# EAGLE library part JOYSTICK (library angrypig7-Switches)
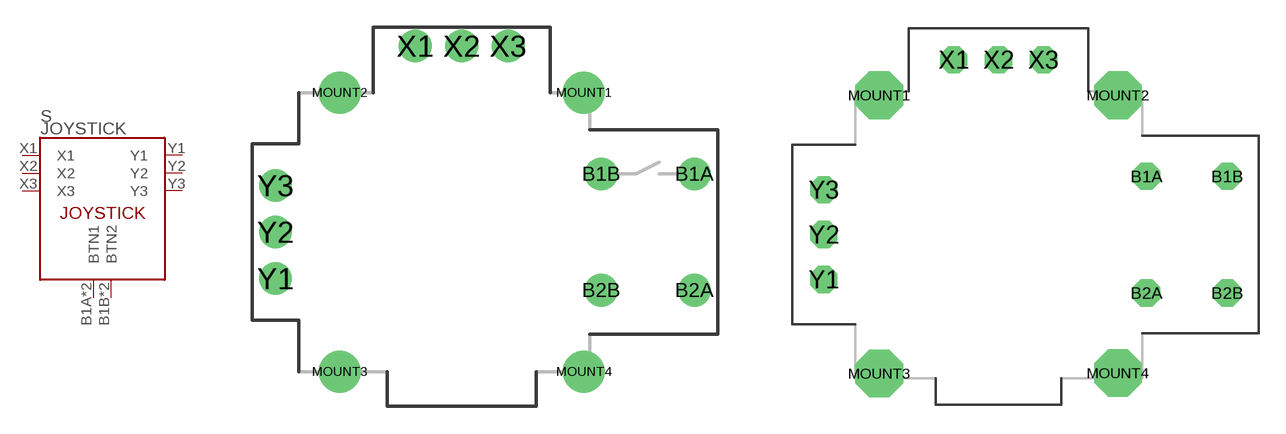
[diagram p1: symbol with the pads of JOYSTICK-PS2; footprints JOYSTICK-PS2, JOYSTICK-XBOX360(JT9S-1P)]

Designator prefix S

## JOYSTICK_PS2  [JOYSTICK-PS2]
B1A  BTN1
B1B  BTN2
B2A  BTN1
B2B  BTN2
X1  X1
X2  X2
X3  X3
Y1  Y1
Y2  Y2
Y3  Y3

## JOYSTICK_XBOX360  [JOYSTICK-XBOX360(JT9S-1P)]
Pads as for JOYSTICK-PS2

## JOYSTICK_ALPS-RKJXV1224005  [JOYSTICK-ALPS-RKJXV1224005]
Pads as for JOYSTICK-PS2

## Footprint JOYSTICK-PS2 (pad centres in mm)
PS2 Joystick This is a joystick very similar to the ‘analog’ joysticks on PS2 (PlayStation 2) controllers. Directional movements are simply two potentiometers - one for each axis. Pots are ~10k each. This joystick also has a select button that is actuated when the joystick is pressed down. Datasheet <http://www.p3america.com/pp/802.htm>
drill 0.9 pad 1.778: B1A 12.7,3.175; B1B 7.62,3.175; B2A 12.7,-3.175; B2B 7.62,-3.175
drill 1.397 pad 2.286: MOUNT1 6.668,7.62; MOUNT2 -6.668,7.62; MOUNT3 -6.668,-7.62; MOUNT4 6.668,-7.62
drill 0.889 pad 1.778: X1 -2.54,10.16; X2 0,10.16; X3 2.54,10.16; Y1 -10.16,-2.54; Y2 -10.16,0; Y3 -10.16,2.54

## Footprint JOYSTICK-XBOX360(JT9S-1P) (pad centres in mm)
drill 1.016 octagon: B1A 8.25,3.25; B1B 12.75,3.25; B2A 8.25,-3.25; B2B 12.75,-3.25; X1 -2.5,9.75; X2 0,9.75; X3 2.5,9.75; Y1 -9.75,-2.5; Y2 -9.75,0; Y3 -9.75,2.5
drill 1.778 octagon: MOUNT1 -6.655,7.772; MOUNT2 6.655,7.772; MOUNT3 -6.655,-7.747; MOUNT4 6.655,-7.722

## Footprint JOYSTICK-ALPS-RKJXV1224005 (pad centres in mm)
drill 1.2: B1A 5.75,-3.25; B1B 10.25,-3.25; B2A 5.75,3.25; B2B 10.25,3.25
drill 1.5: MOUNT1 -5,-6.325; MOUNT2 -5,6.325; MOUNT3 5,-6.325; MOUNT4 5,6.325
drill 1: X1 -2.5,8.73; X2 0,8.73; X3 2.5,8.73; Y1 -8.73,-2.5; Y2 -8.73,0; Y3 -8.73,2.5
hole 1.6 at 0,-4.2
hole 1.6 at 0,4.2